# EAGLE library part SAMD21G18A (library Komponenter)
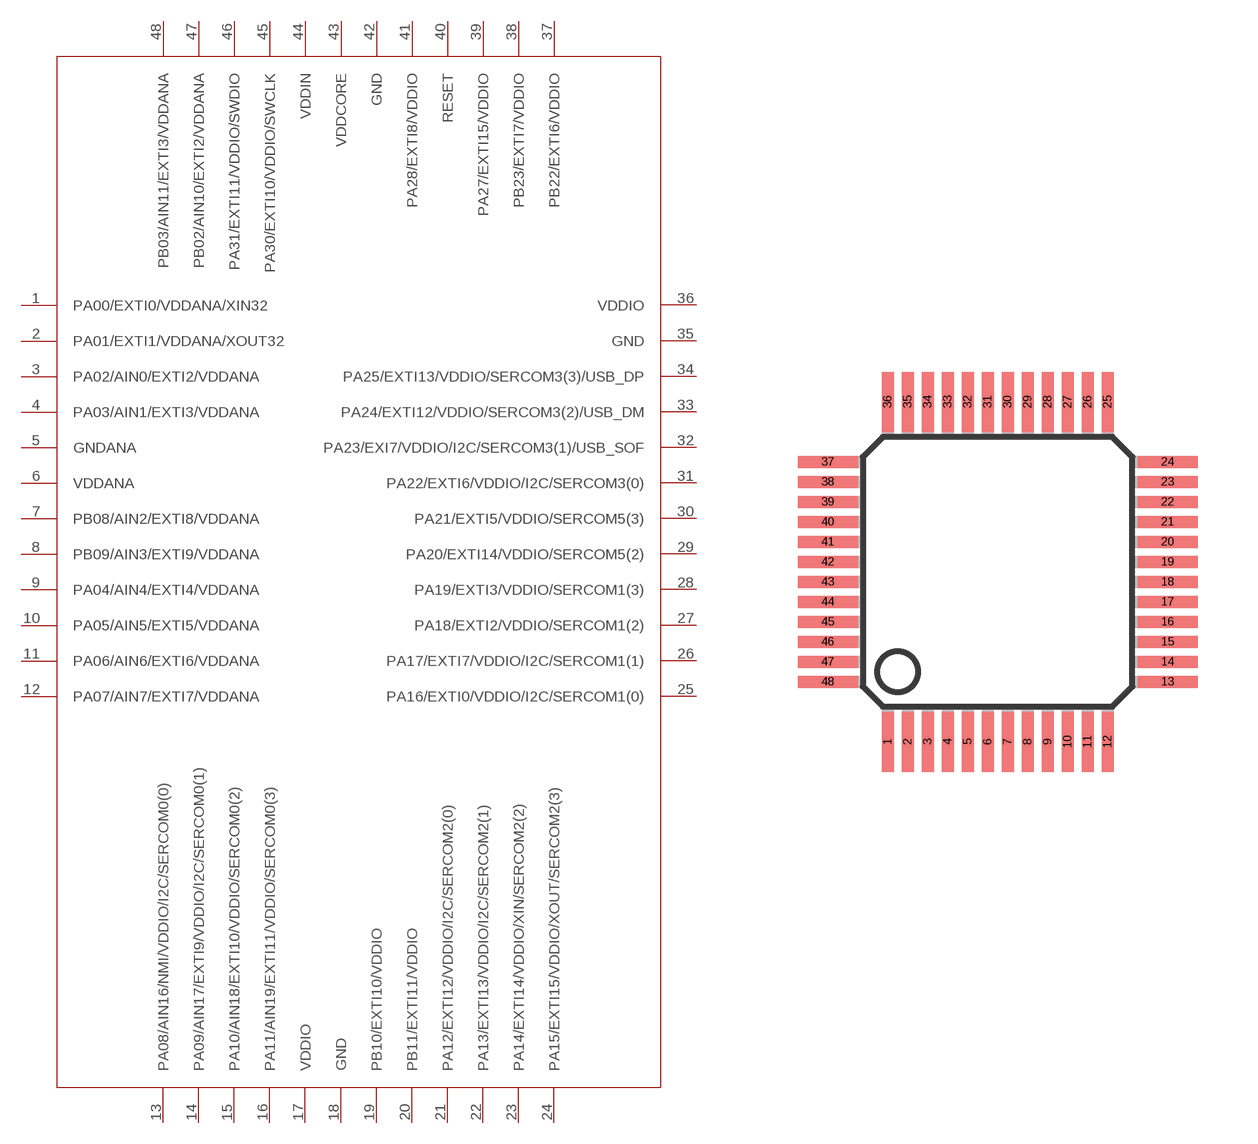
[diagram p0: symbol with the pads of TQFP48; footprint TQFP48]

Designator prefix -

## SAMD21G18A  [TQFP48]
1  PA00/EXTI0/VDDANA/XIN32
2  PA01/EXTI1/VDDANA/XOUT32
3  PA02/AIN0/EXTI2/VDDANA
4  PA03/AIN1/EXTI3/VDDANA
5  GNDANA  pwr
6  VDDANA  pwr
7  PB08/AIN2/EXTI8/VDDANA
8  PB09/AIN3/EXTI9/VDDANA
9  PA04/AIN4/EXTI4/VDDANA
10  PA05/AIN5/EXTI5/VDDANA  pwr
11  PA06/AIN6/EXTI6/VDDANA
12  PA07/AIN7/EXTI7/VDDANA
13  PA08/AIN16/NMI/VDDIO/I2C/SERCOM0(0)
14  PA09/AIN17/EXTI9/VDDIO/I2C/SERCOM0(1)
15  PA10/AIN18/EXTI10/VDDIO/SERCOM0(2)
16  PA11/AIN19/EXTI11/VDDIO/SERCOM0(3)
17  VDDIO  pwr
18  GND  pwr
19  PB10/EXTI10/VDDIO
20  PB11/EXTI11/VDDIO
21  PA12/EXTI12/VDDIO/I2C/SERCOM2(0)
22  PA13/EXTI13/VDDIO/I2C/SERCOM2(1)
23  PA14/EXTI14/VDDIO/XIN/SERCOM2(2)
24  PA15/EXTI15/VDDIO/XOUT/SERCOM2(3)
25  PA16/EXTI0/VDDIO/I2C/SERCOM1(0)
26  PA17/EXTI7/VDDIO/I2C/SERCOM1(1)
27  PA18/EXTI2/VDDIO/SERCOM1(2)
28  PA19/EXTI3/VDDIO/SERCOM1(3)
29  PA20/EXTI14/VDDIO/SERCOM5(2)
30  PA21/EXTI5/VDDIO/SERCOM5(3)
31  PA22/EXTI6/VDDIO/I2C/SERCOM3(0)
32  PA23/EXI7/VDDIO/I2C/SERCOM3(1)/USB_SOF
33  PA24/EXTI12/VDDIO/SERCOM3(2)/USB_DM
34  PA25/EXTI13/VDDIO/SERCOM3(3)/USB_DP
35  GND  pwr
36  VDDIO  pwr
37  PB22/EXTI6/VDDIO
38  PB23/EXTI7/VDDIO
39  PA27/EXTI15/VDDIO
40  RESET  in
41  PA28/EXTI8/VDDIO
42  GND  pwr
43  VDDCORE  pwr
44  VDDIN  pwr
45  PA30/EXTI10/VDDIO/SWCLK  nc
46  PA31/EXTI11/VDDIO/SWDIO
47  PB02/AIN10/EXTI2/VDDANA  nc
48  PB03/AIN11/EXTI3/VDDANA

## Footprint TQFP48 (pad centres in mm)
Thin Quad Flat Pack
smd 0.3 x 1.5: 1 -2.75,-4.25; 2 -2.25,-4.25; 3 -1.75,-4.25; 4 -1.25,-4.25; 5 -0.75,-4.25; 6 -0.25,-4.25; 7 0.25,-4.25; 8 0.75,-4.25; 9 1.25,-4.25; 10 1.75,-4.25; 11 2.25,-4.25; 12 2.75,-4.25; 25 2.75,4.25; 26 2.25,4.25; 27 1.75,4.25; 28 1.25,4.25; 29 0.75,4.25; 30 0.25,4.25; 31 -0.25,4.25; 32 -0.75,4.25; 33 -1.25,4.25; 34 -1.75,4.25; 35 -2.25,4.25; 36 -2.75,4.25
smd 1.5 x 0.3: 13 4.25,-2.75; 14 4.25,-2.25; 15 4.25,-1.75; 16 4.25,-1.25; 17 4.25,-0.75; 18 4.25,-0.25; 19 4.25,0.25; 20 4.25,0.75; 21 4.25,1.25; 22 4.25,1.75; 23 4.25,2.25; 24 4.25,2.75; 37 -4.25,2.75; 38 -4.25,2.25; 39 -4.25,1.75; 40 -4.25,1.25; 41 -4.25,0.75; 42 -4.25,0.25; 43 -4.25,-0.25; 44 -4.25,-0.75; 45 -4.25,-1.25; 46 -4.25,-1.75; 47 -4.25,-2.25; 48 -4.25,-2.75